# Altium footprint library SC-89-6.PcbLib: 1 footprints
Each footprint in its own frame and in the unit in brackets; x right, y up, seen from the top. Pads: shape width x height; smd on the part's side, far side on the other; paste and mask are expansions set on the pad; w line width, h text height; cw(c..) or ccw(c..) is an arc to the next point about the centre after c.
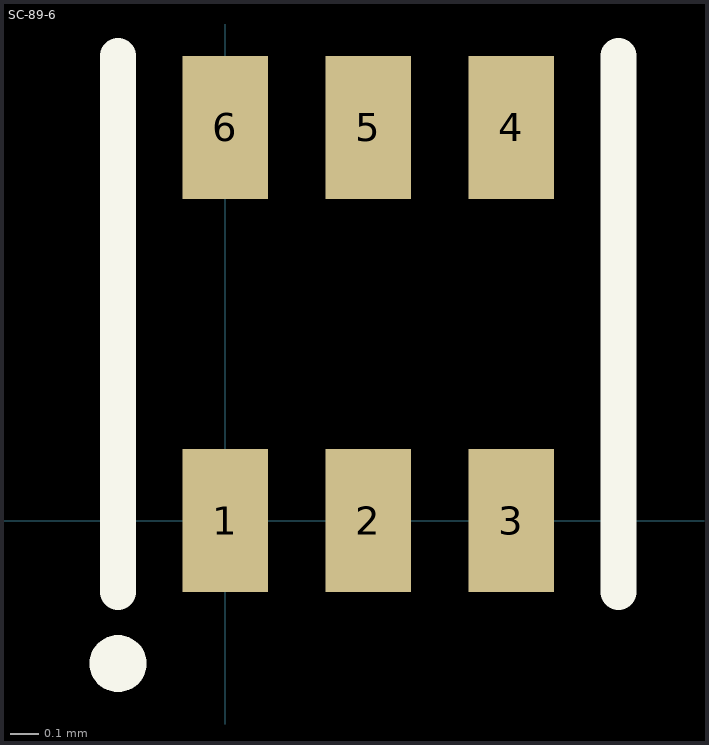
[diagram p0: the footprint, top view; thin cyan lines are the x and y axes]

## SC-89-6 [mil]
pads (7):
  rect 12x20 smd: 1(0,0) 2(20,0) 3(40,0) 4(40,55) 5(20,55) 6(0,55)
  round 8 on Top Overlay: ""(-15,-20)
Top Overlay:
  lines w5: -15,-10 -15,65 ; 55,-10 55,65
3D body: height 23.62, standoff -0.04, extent -14,-6 52.93,60.93